# EAGLE library part EPF10K250-P599 (library altera)
EPF10K250 FLEX 10K family
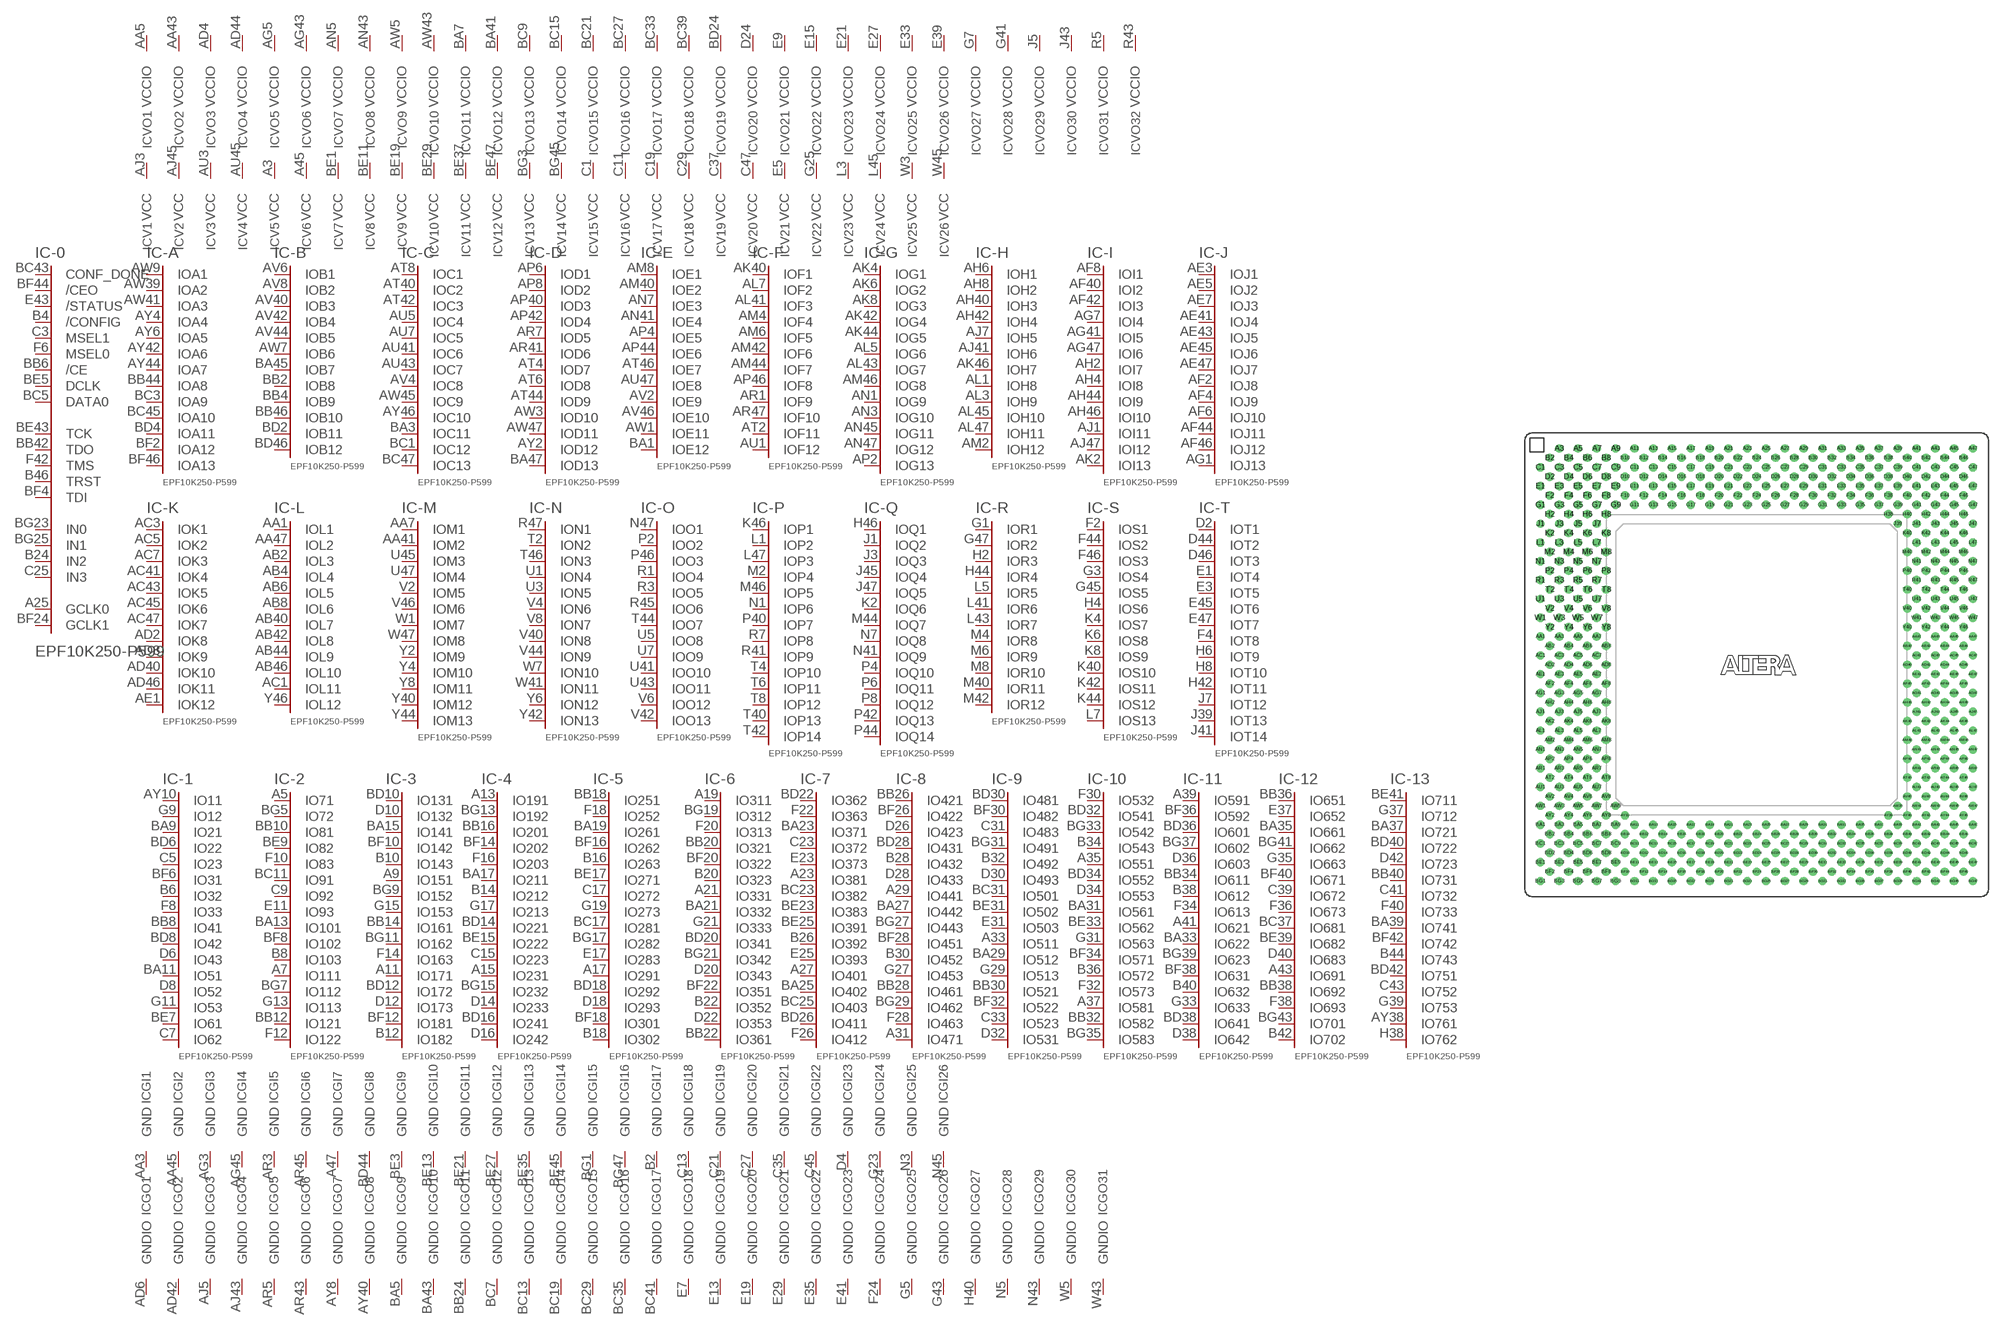
[diagram p31: symbol with the pads of PGA599; footprint PGA599]

Designator prefix IC; gates -0=K250_C -A=A13-250 -B=B12-250 -C=C13-250 -D=D13-250 -E=E12-250 -F=F12-250 -G=G13-250 -H=H12-250 -I=I13-250 -J=J13-250 -K=K12-250 -L=L12-250 -M=M13-250 -N=N13-250 -O=O13-250 -Q=Q14-250 -S=S13-250 -T=T14-250 -1=62-250 -2=122-250 -3=182-250 -4=242-250 -5=302-250 -6=361-250 -7=412-250 -8=471-250 -9=531-250 -10=583-250 -11=642-250 -12=702-250 -13=762-250 -P=P14-250 -R=R12-250 GI1=GNDINT GI2=GNDINT GI3=GNDINT GI4=GNDINT GI5=GNDINT GI6=GNDINT GI7=GNDINT GI8=GNDINT GI9=GNDINT GI10=GNDINT GI11=GNDINT GI12=GNDINT GI13=GNDINT GI14=GNDINT GI15=GNDINT GI16=GNDINT GI17=GNDINT GI18=GNDINT GI19=GNDINT GI20=GNDINT GI21=GNDINT GI22=GNDINT GI23=GNDINT GI24=GNDINT GI25=GNDINT GI26=GNDINT GO1=GNDIO GO2=GNDIO GO3=GNDIO GO4=GNDIO GO5=GNDIO GO6=GNDIO GO7=GNDIO GO8=GNDIO GO9=GNDIO GO10=GNDIO GO11=GNDIO GO12=GNDIO GO13=GNDIO GO14=GNDIO GO15=GNDIO GO16=GNDIO GO17=GNDIO GO18=GNDIO GO19=GNDIO GO20=GNDIO GO21=GNDIO GO22=GNDIO GO23=GNDIO GO24=GNDIO GO25=GNDIO GO26=GNDIO GO27=GNDIO GO28=GNDIO GO29=GNDIO GO30=GNDIO GO31=GNDIO V1=VCCINT V2=VCCINT V3=VCCINT V4=VCCINT V5=VCCINT V6=VCCINT V7=VCCINT V8=VCCINT V9=VCCINT V10=VCCINT V11=VCCINT V12=VCCINT V13=VCCINT V14=VCCINT V15=VCCINT V16=VCCINT V17=VCCINT V18=VCCINT V19=VCCINT V20=VCCINT V21=VCCINT V22=VCCINT V23=VCCINT V24=VCCINT V25=VCCINT V26=VCCINT VO1=VCCIO VO2=VCCIO VO3=VCCIO VO4=VCCIO VO5=VCCIO VO6=VCCIO VO7=VCCIO VO8=VCCIO VO9=VCCIO VO10=VCCIO VO11=VCCIO VO12=VCCIO VO13=VCCIO VO14=VCCIO VO15=VCCIO VO16=VCCIO VO17=VCCIO VO18=VCCIO VO19=VCCIO VO20=VCCIO VO21=VCCIO VO22=VCCIO VO23=VCCIO VO24=VCCIO VO25=VCCIO VO26=VCCIO VO27=VCCIO VO28=VCCIO VO29=VCCIO VO30=VCCIO VO31=VCCIO VO32=VCCIO

## EPF10K250-P599 (OC_FARNELL: unknown; OC_NEWARK: unknown)  [PGA599]
A3  V5:VCC  pwr
A5  -2:IO71
A7  -2:IO111
A9  -3:IO151
A11  -3:IO171
A13  -4:IO191
A15  -4:IO231
A17  -5:IO291
A19  -6:IO311
A21  -6:IO331
A23  -7:IO381
A25  -0:GCLK0  in
A27  -7:IO401
A29  -8:IO441
A31  -8:IO471
A33  -9:IO511
A35  -10:IO551
A37  -10:IO581
A39  -11:IO591
A41  -11:IO621
A43  -12:IO691
A45  V6:VCC  pwr
A47  GI7:GND  pwr
AA1  -L:IOL1
AA3  GI1:GND  pwr
AA5  VO1:VCCIO  pwr
AA7  -M:IOM1
AA41  -M:IOM2
AA43  VO2:VCCIO  pwr
AA45  GI2:GND  pwr
AA47  -L:IOL2
AB2  -L:IOL3
AB4  -L:IOL4
AB6  -L:IOL5
AB8  -L:IOL6
AB40  -L:IOL7
AB42  -L:IOL8
AB44  -L:IOL9
AB46  -L:IOL10
AC1  -L:IOL11
AC3  -K:IOK1
AC5  -K:IOK2
AC7  -K:IOK3
AC41  -K:IOK4
AC43  -K:IOK5
AC45  -K:IOK6
AC47  -K:IOK7
AD2  -K:IOK8
AD4  VO3:VCCIO  pwr
AD6  GO1:GNDIO  pwr
AD8  -K:IOK9
AD40  -K:IOK10
AD42  GO2:GNDIO  pwr
AD44  VO4:VCCIO  pwr
AD46  -K:IOK11
AE1  -K:IOK12
AE3  -J:IOJ1
AE5  -J:IOJ2
AE7  -J:IOJ3
AE41  -J:IOJ4
AE43  -J:IOJ5
AE45  -J:IOJ6
AE47  -J:IOJ7
AF2  -J:IOJ8
AF4  -J:IOJ9
AF6  -J:IOJ10
AF8  -I:IOI1
AF40  -I:IOI2
AF42  -I:IOI3
AF44  -J:IOJ11
AF46  -J:IOJ12
AG1  -J:IOJ13
AG3  GI3:GND  pwr
AG5  VO5:VCCIO  pwr
AG7  -I:IOI4
AG41  -I:IOI5
AG43  VO6:VCCIO  pwr
AG45  GI4:GND  pwr
AG47  -I:IOI6
AH2  -I:IOI7
AH4  -I:IOI8
AH6  -H:IOH1
AH8  -H:IOH2
AH40  -H:IOH3
AH42  -H:IOH4
AH44  -I:IOI9
AH46  -I:IOI10
AJ1  -I:IOI11
AJ3  V1:VCC  pwr
AJ5  GO3:GNDIO  pwr
AJ7  -H:IOH5
AJ41  -H:IOH6
AJ43  GO4:GNDIO  pwr
AJ45  V2:VCC  pwr
AJ47  -I:IOI12
AK2  -I:IOI13
AK4  -G:IOG1
AK6  -G:IOG2
AK8  -G:IOG3
AK40  -F:IOF1
AK42  -G:IOG4
AK44  -G:IOG5
AK46  -H:IOH7
AL1  -H:IOH8
AL3  -H:IOH9
AL5  -G:IOG6
AL7  -F:IOF2
AL41  -F:IOF3
AL43  -G:IOG7
AL45  -H:IOH10
AL47  -H:IOH11
AM2  -H:IOH12
AM4  -F:IOF4
AM6  -F:IOF5
AM8  -E:IOE1
AM40  -E:IOE2
AM42  -F:IOF6
AM44  -F:IOF7
AM46  -G:IOG8
AN1  -G:IOG9
AN3  -G:IOG10
AN5  VO7:VCCIO  pwr
AN7  -E:IOE3
AN41  -E:IOE4
AN43  VO8:VCCIO  pwr
AN45  -G:IOG11
AN47  -G:IOG12
AP2  -G:IOG13
AP4  -E:IOE5
AP6  -D:IOD1
AP8  -D:IOD2
AP40  -D:IOD3
AP42  -D:IOD4
AP44  -E:IOE6
AP46  -F:IOF8
AR1  -F:IOF9
AR3  GI5:GND  pwr
AR5  GO5:GNDIO  pwr
AR7  -D:IOD5
AR41  -D:IOD6
AR43  GO6:GNDIO  pwr
AR45  GI6:GND  pwr
AR47  -F:IOF10
AT2  -F:IOF11
AT4  -D:IOD7
AT6  -D:IOD8
AT8  -C:IOC1
AT40  -C:IOC2
AT42  -C:IOC3
AT44  -D:IOD9
AT46  -E:IOE7
AU1  -F:IOF12
AU3  V3:VCC  pwr
AU5  -C:IOC4
AU7  -C:IOC5
AU41  -C:IOC6
AU43  -C:IOC7
AU45  V4:VCC  pwr
AU47  -E:IOE8
AV2  -E:IOE9
AV4  -C:IOC8
AV6  -B:IOB1
AV8  -B:IOB2
AV40  -B:IOB3
AV42  -B:IOB4
AV44  -B:IOB5
AV46  -E:IOE10
AW1  -E:IOE11
AW3  -D:IOD10
AW5  VO9:VCCIO  pwr
AW7  -B:IOB6
AW9  -A:IOA1
AW39  -A:IOA2
AW41  -A:IOA3
AW43  VO10:VCCIO  pwr
AW45  -C:IOC9
AW47  -D:IOD11
AY2  -D:IOD12
AY4  -A:IOA4
AY6  -A:IOA5
AY8  GO7:GNDIO  pwr
AY10  -1:IO11
AY38  -13:IO761
AY40  GO8:GNDIO  pwr
AY42  -A:IOA6
AY44  -A:IOA7
AY46  -C:IOC10
B2  GI17:GND  pwr
B4  -0:/CONFIG  in
B6  -1:IO32
B8  -2:IO103
B10  -3:IO143
B12  -3:IO182
B14  -4:IO212
B16  -5:IO263
B18  -5:IO302
B20  -6:IO323
B22  -6:IO352
B24  -0:IN2  in
B26  -7:IO392
B28  -8:IO432
B30  -8:IO452
B32  -9:IO492
B34  -10:IO543
B36  -10:IO572
B38  -11:IO612
B40  -11:IO632
B42  -12:IO702
B44  -13:IO743
B46  -0:TRST
BA1  -E:IOE12
BA3  -C:IOC11
BA5  GO9:GNDIO  pwr
BA7  VO11:VCCIO  pwr
BA9  -1:IO21
BA11  -1:IO51
BA13  -2:IO101
BA15  -3:IO141
BA17  -4:IO211
BA19  -5:IO261
BA21  -6:IO332
BA23  -7:IO371
BA25  -7:IO402
BA27  -8:IO442
BA29  -9:IO512
BA31  -10:IO561
BA33  -11:IO622
BA35  -12:IO661
BA37  -13:IO721
BA39  -13:IO741
BA41  VO12:VCCIO  pwr
BA43  GO10:GNDIO  pwr
BA45  -B:IOB7
BA47  -D:IOD13
BB2  -B:IOB8
BB4  -B:IOB9
BB6  -0:/CE  in
BB8  -1:IO41
BB10  -2:IO81
BB12  -2:IO121
BB14  -3:IO161
BB16  -4:IO201
BB18  -5:IO251
BB20  -6:IO321
BB22  -6:IO361
BB24  GO11:GNDIO  pwr
BB26  -8:IO421
BB28  -8:IO461
BB30  -9:IO521
BB32  -10:IO582
BB34  -11:IO611
BB36  -12:IO651
BB38  -12:IO692
BB40  -13:IO731
BB42  -0:TDO
BB44  -A:IOA8
BB46  -B:IOB10
BC1  -C:IOC12
BC3  -A:IOA9
BC5  -0:DATA0  in
BC7  GO12:GNDIO  pwr
BC9  VO13:VCCIO  pwr
BC11  -2:IO91
BC13  GO13:GNDIO  pwr
BC15  VO14:VCCIO  pwr
BC17  -5:IO281
BC19  GO14:GNDIO  pwr
BC21  VO15:VCCIO  pwr
BC23  -7:IO382
BC25  -7:IO403
BC27  VO16:VCCIO  pwr
BC29  GO15:GNDIO  pwr
BC31  -9:IO501
BC33  VO17:VCCIO  pwr
BC35  GO16:GNDIO  pwr
BC37  -12:IO681
BC39  VO18:VCCIO  pwr
BC41  GO17:GNDIO  pwr
BC43  -0:CONF_DONE  in
BC45  -A:IOA10
BC47  -C:IOC13
BD2  -B:IOB11
BD4  -A:IOA11
BD6  -1:IO22
BD8  -1:IO42
BD10  -3:IO131
BD12  -3:IO172
BD14  -4:IO221
BD16  -4:IO241
BD18  -5:IO292
BD20  -6:IO341
BD22  -7:IO362
BD24  VO19:VCCIO  pwr
BD26  -7:IO411
BD28  -8:IO431
BD30  -9:IO481
BD32  -10:IO541
BD34  -10:IO552
BD36  -11:IO601
BD38  -11:IO641
BD40  -13:IO722
BD42  -13:IO751
BD44  GI8:GND  pwr
BD46  -B:IOB12
BE1  V7:VCC  pwr
BE3  GI9:GND  pwr
BE5  -0:DCLK  in
BE7  -1:IO61
BE9  -2:IO82
BE11  V8:VCC  pwr
BE13  GI10:GND  pwr
BE15  -4:IO222
BE17  -5:IO271
BE19  V9:VCC  pwr
BE21  GI11:GND  pwr
BE23  -7:IO383
BE25  -7:IO391
BE27  GI12:GND  pwr
BE29  V10:VCC  pwr
BE31  -9:IO502
BE33  -10:IO562
BE35  GI13:GND  pwr
BE37  V11:VCC  pwr
BE39  -12:IO682
BE41  -13:IO711
BE43  -0:TCK
BE45  GI14:GND  pwr
BE47  V12:VCC  pwr
BF2  -A:IOA12
BF4  -0:TDI
BF6  -1:IO31
BF8  -2:IO102
BF10  -3:IO142
BF12  -3:IO181
BF14  -4:IO202
BF16  -5:IO262
BF18  -5:IO301
BF20  -6:IO322
BF22  -6:IO351
BF24  -0:GCLK1  in
BF26  -8:IO422
BF28  -8:IO451
BF30  -9:IO482
BF32  -9:IO522
BF34  -10:IO571
BF36  -11:IO592
BF38  -11:IO631
BF40  -12:IO671
BF42  -13:IO742
BF44  -0:/CEO  in
BF46  -A:IOA13
BG1  GI15:GND  pwr
BG3  V13:VCC  pwr
BG5  -2:IO72
BG7  -2:IO112
BG9  -3:IO152
BG11  -3:IO162
BG13  -4:IO192
BG15  -4:IO232
BG17  -5:IO282
BG19  -6:IO312
BG21  -6:IO342
BG23  -0:IN0  in
BG25  -0:IN1  in
BG27  -8:IO443
BG29  -8:IO462
BG31  -9:IO491
BG33  -10:IO542
BG35  -10:IO583
BG37  -11:IO602
BG39  -11:IO623
BG41  -12:IO662
BG43  -12:IO701
BG45  V14:VCC  pwr
BG47  GI16:GND  pwr
C1  V15:VCC  pwr
C3  -0:MSEL1  in
C5  -1:IO23
C7  -1:IO62
C9  -2:IO92
C11  V16:VCC  pwr
C13  GI18:GND  pwr
C15  -4:IO223
C17  -5:IO272
C19  V17:VCC  pwr
C21  GI19:GND  pwr
C23  -7:IO372
C25  -0:IN3  in
C27  GI20:GND  pwr
C29  V18:VCC  pwr
C31  -9:IO483
C33  -9:IO523
C35  GI21:GND  pwr
C37  V19:VCC  pwr
C39  -12:IO672
C41  -13:IO732
C43  -13:IO752
C45  GI22:GND  pwr
C47  V20:VCC  pwr
D2  -T:IOT1
D4  GI23:GND  pwr
D6  -1:IO43
D8  -1:IO52
D10  -3:IO132
D12  -3:IO173
D14  -4:IO233
D16  -4:IO242
D18  -5:IO293
D20  -6:IO343
D22  -6:IO353
D24  VO20:VCCIO  pwr
D26  -8:IO423
D28  -8:IO433
D30  -9:IO493
D32  -9:IO531
D34  -10:IO553
D36  -11:IO603
D38  -11:IO642
D40  -12:IO683
D42  -13:IO723
D44  -T:IOT2
D46  -T:IOT3
E1  -T:IOT4
E3  -T:IOT5
E5  V21:VCC  pwr
E7  GO18:GNDIO  pwr
E9  VO21:VCCIO  pwr
E11  -2:IO93
E13  GO19:GNDIO  pwr
E15  VO22:VCCIO  pwr
E17  -5:IO283
E19  GO20:GNDIO  pwr
E21  VO23:VCCIO  pwr
E23  -7:IO373
E25  -7:IO393
E27  VO24:VCCIO  pwr
E29  GO21:GNDIO  pwr
E31  -9:IO503
E33  VO25:VCCIO  pwr
E35  GO22:GNDIO  pwr
E37  -12:IO652
E39  VO26:VCCIO  pwr
E41  GO23:GNDIO  pwr
E43  -0:/STATUS  in
E45  -T:IOT6
E47  -T:IOT7
F2  -S:IOS1
F4  -T:IOT8
F6  -0:MSEL0  in
F8  -1:IO33
F10  -2:IO83
F12  -2:IO122
F14  -3:IO163
F16  -4:IO203
F18  -5:IO252
F20  -6:IO313
F22  -7:IO363
F24  GO24:GNDIO  pwr
F26  -7:IO412
F28  -8:IO463
F30  -10:IO532
F32  -10:IO573
F34  -11:IO613
F36  -12:IO673
F38  -12:IO693
F40  -13:IO733
F42  -0:TMS
F44  -S:IOS2
F46  -S:IOS3
G1  -R:IOR1
G3  -S:IOS4
G5  GO25:GNDIO  pwr
G7  VO27:VCCIO  pwr
G9  -1:IO12
G11  -1:IO53
G13  -2:IO113
G15  -3:IO153
G17  -4:IO213
G19  -5:IO273
G21  -6:IO333
G23  GI24:GND  pwr
G25  V22:VCC  pwr
G27  -8:IO453
G29  -9:IO513
G31  -10:IO563
G33  -11:IO633
G35  -12:IO663
G37  -13:IO712
G39  -13:IO753
G41  VO28:VCCIO  pwr
G43  GO26:GNDIO  pwr
G45  -S:IOS5
G47  -R:IOR2
H2  -R:IOR3
H4  -S:IOS6
H6  -T:IOT9
H8  -T:IOT10
H38  -13:IO762
H40  GO27:GNDIO  pwr
H42  -T:IOT11
H44  -R:IOR4
H46  -Q:IOQ1
J1  -Q:IOQ2
J3  -Q:IOQ3
J5  VO29:VCCIO  pwr
J7  -T:IOT12
J39  -T:IOT13
J41  -T:IOT14
J43  VO30:VCCIO  pwr
J45  -Q:IOQ4
J47  -Q:IOQ5
K2  -Q:IOQ6
K4  -S:IOS7
K6  -S:IOS8
K8  -S:IOS9
K40  -S:IOS10
K42  -S:IOS11
K44  -S:IOS12
K46  -P:IOP1
L1  -P:IOP2
L3  V23:VCC  pwr
L5  -R:IOR5
L7  -S:IOS13
L41  -R:IOR6
L43  -R:IOR7
L45  V24:VCC  pwr
L47  -P:IOP3
M2  -P:IOP4
M4  -R:IOR8
M6  -R:IOR9
M8  -R:IOR10
M40  -R:IOR11
M42  -R:IOR12
M44  -Q:IOQ7
M46  -P:IOP5
N1  -P:IOP6
N3  GI25:GND  pwr
N5  GO28:GNDIO  pwr
N7  -Q:IOQ8
N41  -Q:IOQ9
N43  GO29:GNDIO  pwr
N45  GI26:GND  pwr
N47  -O:IOO1
P2  -O:IOO2
P4  -Q:IOQ10
P6  -Q:IOQ11
P8  -Q:IOQ12
P40  -P:IOP7
P42  -Q:IOQ13
P44  -Q:IOQ14
P46  -O:IOO3
R1  -O:IOO4
R3  -O:IOO5
R5  VO31:VCCIO  pwr
R7  -P:IOP8
R41  -P:IOP9
R43  VO32:VCCIO  pwr
R45  -O:IOO6
R47  -N:ION1
T2  -N:ION2
T4  -P:IOP10
T6  -P:IOP11
T8  -P:IOP12
T40  -P:IOP13
T42  -P:IOP14
T44  -O:IOO7
T46  -N:ION3
U1  -N:ION4
U3  -N:ION5
U5  -O:IOO8
U7  -O:IOO9
U41  -O:IOO10
U43  -O:IOO11
U45  -M:IOM3
U47  -M:IOM4
V2  -M:IOM5
V4  -N:ION6
V6  -O:IOO12
V8  -N:ION7
V40  -N:ION8
V42  -O:IOO13
V44  -N:ION9
V46  -M:IOM6
W1  -M:IOM7
W3  V25:VCC  pwr
W5  GO30:GNDIO  pwr
W7  -N:ION10
W41  -N:ION11
W43  GO31:GNDIO  pwr
W45  V26:VCC  pwr
W47  -M:IOM8
Y2  -M:IOM9
Y4  -M:IOM10
Y6  -N:ION12
Y8  -M:IOM11
Y40  -M:IOM12
Y42  -N:ION13
Y44  -M:IOM13
Y46  -L:IOL12

## Footprint PGA599 (pad centres in mm)
Pin Grid Array
drill 0.61 pad 1.016: A3 -26.67,29.21; A5 -24.13,29.21; A7 -21.59,29.21; A9 -19.05,29.21; A11 -16.51,29.21; A13 -13.97,29.21; A15 -11.43,29.21; A17 -8.89,29.21; A19 -6.35,29.21; A21 -3.81,29.21; A23 -1.27,29.21; A25 1.27,29.21; A27 3.81,29.21; A29 6.35,29.21; A31 8.89,29.21; A33 11.43,29.21; A35 13.97,29.21; A37 16.51,29.21; A39 19.05,29.21; A41 21.59,29.21; A43 24.13,29.21; A45 26.67,29.21; A47 29.21,29.21; AA1 -29.21,3.81; AA3 -26.67,3.81; AA5 -24.13,3.81; AA7 -21.59,3.81; AA41 21.59,3.81; AA43 24.13,3.81; AA45 26.67,3.81; AA47 29.21,3.81; AB2 -27.94,2.54; AB4 -25.4,2.54; AB6 -22.86,2.54; AB8 -20.32,2.54; AB40 20.32,2.54; AB42 22.86,2.54; AB44 25.4,2.54; AB46 27.94,2.54; AC1 -29.21,1.27; AC3 -26.67,1.27; AC5 -24.13,1.27; AC7 -21.59,1.27; AC41 21.59,1.27; AC43 24.13,1.27; AC45 26.67,1.27; AC47 29.21,1.27; AD2 -27.94,0; AD4 -25.4,0; AD6 -22.86,0; AD8 -20.32,0; AD40 20.32,0; AD42 22.86,0; AD44 25.4,0; AD46 27.94,0; AE1 -29.21,-1.27; AE3 -26.67,-1.27; AE5 -24.13,-1.27; AE7 -21.59,-1.27; AE41 21.59,-1.27; AE43 24.13,-1.27; AE45 26.67,-1.27; AE47 29.21,-1.27; AF2 -27.94,-2.54; AF4 -25.4,-2.54; AF6 -22.86,-2.54; AF8 -20.32,-2.54; AF40 20.32,-2.54; AF42 22.86,-2.54; AF44 25.4,-2.54; AF46 27.94,-2.54; AG1 -29.21,-3.81; AG3 -26.67,-3.81; AG5 -24.13,-3.81; AG7 -21.59,-3.81; AG41 21.59,-3.81; AG43 24.13,-3.81; AG45 26.67,-3.81; AG47 29.21,-3.81; AH2 -27.94,-5.08; AH4 -25.4,-5.08; AH6 -22.86,-5.08; AH8 -20.32,-5.08; AH40 20.32,-5.08; AH42 22.86,-5.08; AH44 25.4,-5.08; AH46 27.94,-5.08; AJ1 -29.21,-6.35; AJ3 -26.67,-6.35; AJ5 -24.13,-6.35; AJ7 -21.59,-6.35; AJ41 21.59,-6.35; AJ43 24.13,-6.35; AJ45 26.67,-6.35; AJ47 29.21,-6.35; AK2 -27.94,-7.62; AK4 -25.4,-7.62; AK6 -22.86,-7.62; AK8 -20.32,-7.62; AK40 20.32,-7.62; AK42 22.86,-7.62; AK44 25.4,-7.62; AK46 27.94,-7.62; AL1 -29.21,-8.89; AL3 -26.67,-8.89; AL5 -24.13,-8.89; AL7 -21.59,-8.89; AL41 21.59,-8.89; AL43 24.13,-8.89; AL45 26.67,-8.89; AL47 29.21,-8.89; AM2 -27.94,-10.16; AM4 -25.4,-10.16; AM6 -22.86,-10.16; AM8 -20.32,-10.16; AM40 20.32,-10.16; AM42 22.86,-10.16; AM44 25.4,-10.16; AM46 27.94,-10.16; AN1 -29.21,-11.43; AN3 -26.67,-11.43; AN5 -24.13,-11.43; AN7 -21.59,-11.43; AN41 21.59,-11.43; AN43 24.13,-11.43; AN45 26.67,-11.43; AN47 29.21,-11.43; AP2 -27.94,-12.7; AP4 -25.4,-12.7; AP6 -22.86,-12.7; AP8 -20.32,-12.7; AP40 20.32,-12.7; AP42 22.86,-12.7; AP44 25.4,-12.7; AP46 27.94,-12.7; AR1 -29.21,-13.97; AR3 -26.67,-13.97; AR5 -24.13,-13.97; AR7 -21.59,-13.97; AR41 21.59,-13.97; AR43 24.13,-13.97; AR45 26.67,-13.97; AR47 29.21,-13.97; AT2 -27.94,-15.24; AT4 -25.4,-15.24; AT6 -22.86,-15.24; AT8 -20.32,-15.24; AT40 20.32,-15.24; AT42 22.86,-15.24; AT44 25.4,-15.24; AT46 27.94,-15.24; AU1 -29.21,-16.51; AU3 -26.67,-16.51; AU5 -24.13,-16.51; AU7 -21.59,-16.51; AU41 21.59,-16.51; AU43 24.13,-16.51; AU45 26.67,-16.51; AU47 29.21,-16.51; AV2 -27.94,-17.78; AV4 -25.4,-17.78; AV6 -22.86,-17.78; AV8 -20.32,-17.78; AV40 20.32,-17.78; AV42 22.86,-17.78; AV44 25.4,-17.78; AV46 27.94,-17.78; AW1 -29.21,-19.05; AW3 -26.67,-19.05; AW5 -24.13,-19.05; AW7 -21.59,-19.05; AW9 -19.05,-19.05; AW39 19.05,-19.05; AW41 21.59,-19.05; AW43 24.13,-19.05; AW45 26.67,-19.05; AW47 29.21,-19.05; AY2 -27.94,-20.32; AY4 -25.4,-20.32; AY6 -22.86,-20.32; AY8 -20.32,-20.32; AY10 -17.78,-20.32; AY38 17.78,-20.32; AY40 20.32,-20.32; AY42 22.86,-20.32; AY44 25.4,-20.32; AY46 27.94,-20.32; B2 -27.94,27.94; B4 -25.4,27.94; B6 -22.86,27.94; B8 -20.32,27.94; B10 -17.78,27.94; B12 -15.24,27.94; B14 -12.7,27.94; B16 -10.16,27.94; B18 -7.62,27.94; B20 -5.08,27.94; B22 -2.54,27.94; B24 0,27.94; B26 2.54,27.94; B28 5.08,27.94; B30 7.62,27.94; B32 10.16,27.94; B34 12.7,27.94; B36 15.24,27.94; B38 17.78,27.94; B40 20.32,27.94; B42 22.86,27.94; B44 25.4,27.94; B46 27.94,27.94; BA1 -29.21,-21.59; BA3 -26.67,-21.59; BA5 -24.13,-21.59; BA7 -21.59,-21.59; BA9 -19.05,-21.59; BA11 -16.51,-21.59; BA13 -13.97,-21.59; BA15 -11.43,-21.59; BA17 -8.89,-21.59; BA19 -6.35,-21.59; BA21 -3.81,-21.59; BA23 -1.27,-21.59; BA25 1.27,-21.59; BA27 3.81,-21.59; BA29 6.35,-21.59; BA31 8.89,-21.59; BA33 11.43,-21.59; BA35 13.97,-21.59; BA37 16.51,-21.59; BA39 19.05,-21.59; BA41 21.59,-21.59; BA43 24.13,-21.59; BA45 26.67,-21.59; BA47 29.21,-21.59; BB2 -27.94,-22.86; BB4 -25.4,-22.86; BB6 -22.86,-22.86; BB8 -20.32,-22.86; BB10 -17.78,-22.86; BB12 -15.24,-22.86; BB14 -12.7,-22.86; BB16 -10.16,-22.86; BB18 -7.62,-22.86; BB20 -5.08,-22.86; BB22 -2.54,-22.86; BB24 0,-22.86; BB26 2.54,-22.86; BB28 5.08,-22.86; BB30 7.62,-22.86; BB32 10.16,-22.86; BB34 12.7,-22.86; BB36 15.24,-22.86; BB38 17.78,-22.86; BB40 20.32,-22.86; BB42 22.86,-22.86; BB44 25.4,-22.86; BB46 27.94,-22.86; BC1 -29.21,-24.13; BC3 -26.67,-24.13; BC5 -24.13,-24.13; BC7 -21.59,-24.13; BC9 -19.05,-24.13; BC11 -16.51,-24.13; BC13 -13.97,-24.13; BC15 -11.43,-24.13; BC17 -8.89,-24.13; BC19 -6.35,-24.13; BC21 -3.81,-24.13; BC23 -1.27,-24.13; BC25 1.27,-24.13; BC27 3.81,-24.13; BC29 6.35,-24.13; BC31 8.89,-24.13; BC33 11.43,-24.13; BC35 13.97,-24.13; BC37 16.51,-24.13; BC39 19.05,-24.13; BC41 21.59,-24.13; BC43 24.13,-24.13; BC45 26.67,-24.13; BC47 29.21,-24.13; BD2 -27.94,-25.4; BD4 -25.4,-25.4; BD6 -22.86,-25.4; BD8 -20.32,-25.4; BD10 -17.78,-25.4; BD12 -15.24,-25.4; BD14 -12.7,-25.4; BD16 -10.16,-25.4; BD18 -7.62,-25.4; BD20 -5.08,-25.4; BD22 -2.54,-25.4; BD24 0,-25.4; BD26 2.54,-25.4; BD28 5.08,-25.4; BD30 7.62,-25.4; BD32 10.16,-25.4; BD34 12.7,-25.4; BD36 15.24,-25.4; BD38 17.78,-25.4; BD40 20.32,-25.4; BD42 22.86,-25.4; BD44 25.4,-25.4; BD46 27.94,-25.4; BE1 -29.21,-26.67; BE3 -26.67,-26.67; BE5 -24.13,-26.67; BE7 -21.59,-26.67; BE9 -19.05,-26.67; BE11 -16.51,-26.67; BE13 -13.97,-26.67; BE15 -11.43,-26.67; BE17 -8.89,-26.67; BE19 -6.35,-26.67; BE21 -3.81,-26.67; BE23 -1.27,-26.67; BE25 1.27,-26.67; BE27 3.81,-26.67; BE29 6.35,-26.67; BE31 8.89,-26.67; BE33 11.43,-26.67; BE35 13.97,-26.67; BE37 16.51,-26.67; BE39 19.05,-26.67; BE41 21.59,-26.67; BE43 24.13,-26.67; BE45 26.67,-26.67; BE47 29.21,-26.67; BF2 -27.94,-27.94; BF4 -25.4,-27.94; BF6 -22.86,-27.94; BF8 -20.32,-27.94; BF10 -17.78,-27.94; BF12 -15.24,-27.94; BF14 -12.7,-27.94; BF16 -10.16,-27.94; BF18 -7.62,-27.94; BF20 -5.08,-27.94; BF22 -2.54,-27.94; BF24 0,-27.94; BF26 2.54,-27.94; BF28 5.08,-27.94; BF30 7.62,-27.94; BF32 10.16,-27.94; BF34 12.7,-27.94; BF36 15.24,-27.94; BF38 17.78,-27.94; BF40 20.32,-27.94; BF42 22.86,-27.94; BF44 25.4,-27.94; BF46 27.94,-27.94; BG1 -29.21,-29.21; BG3 -26.67,-29.21; BG5 -24.13,-29.21; BG7 -21.59,-29.21; BG9 -19.05,-29.21; BG11 -16.51,-29.21; BG13 -13.97,-29.21; BG15 -11.43,-29.21; BG17 -8.89,-29.21; BG19 -6.35,-29.21; BG21 -3.81,-29.21; BG23 -1.27,-29.21; BG25 1.27,-29.21; BG27 3.81,-29.21; BG29 6.35,-29.21; BG31 8.89,-29.21; BG33 11.43,-29.21; BG35 13.97,-29.21; BG37 16.51,-29.21; BG39 19.05,-29.21; BG41 21.59,-29.21; BG43 24.13,-29.21; BG45 26.67,-29.21; BG47 29.21,-29.21; C1 -29.21,26.67; C3 -26.67,26.67; C5 -24.13,26.67; C7 -21.59,26.67; C9 -19.05,26.67; C11 -16.51,26.67; C13 -13.97,26.67; C15 -11.43,26.67; C17 -8.89,26.67; C19 -6.35,26.67; C21 -3.81,26.67; C23 -1.27,26.67; C25 1.27,26.67; C27 3.81,26.67; C29 6.35,26.67; C31 8.89,26.67; C33 11.43,26.67; C35 13.97,26.67; C37 16.51,26.67; C39 19.05,26.67; C41 21.59,26.67; C43 24.13,26.67; C45 26.67,26.67; C47 29.21,26.67; D2 -27.94,25.4; D4 -25.4,25.4; D6 -22.86,25.4; D8 -20.32,25.4; D10 -17.78,25.4; D12 -15.24,25.4; D14 -12.7,25.4; D16 -10.16,25.4; D18 -7.62,25.4; D20 -5.08,25.4; D22 -2.54,25.4; D24 0,25.4; D26 2.54,25.4; D28 5.08,25.4; D30 7.62,25.4; D32 10.16,25.4; D34 12.7,25.4; D36 15.24,25.4; D38 17.78,25.4; D40 20.32,25.4; D42 22.86,25.4; D44 25.4,25.4; D46 27.94,25.4; E1 -29.21,24.13; E3 -26.67,24.13; E5 -24.13,24.13; E7 -21.59,24.13; E9 -19.05,24.13; E11 -16.51,24.13; E13 -13.97,24.13; E15 -11.43,24.13; E17 -8.89,24.13; E19 -6.35,24.13; E21 -3.81,24.13; E23 -1.27,24.13; E25 1.27,24.13; E27 3.81,24.13; E29 6.35,24.13; E31 8.89,24.13; E33 11.43,24.13; E35 13.97,24.13; E37 16.51,24.13; E39 19.05,24.13; E41 21.59,24.13; E43 24.13,24.13; E45 26.67,24.13; E47 29.21,24.13; F2 -27.94,22.86; F4 -25.4,22.86; F6 -22.86,22.86; F8 -20.32,22.86; F10 -17.78,22.86; F12 -15.24,22.86; F14 -12.7,22.86; F16 -10.16,22.86; F18 -7.62,22.86; F20 -5.08,22.86; F22 -2.54,22.86; F24 0,22.86; F26 2.54,22.86; F28 5.08,22.86; F30 7.62,22.86; F32 10.16,22.86; F34 12.7,22.86; F36 15.24,22.86; F38 17.78,22.86; F40 20.32,22.86; F42 22.86,22.86; F44 25.4,22.86; F46 27.94,22.86; G1 -29.21,21.59; G3 -26.67,21.59; G5 -24.13,21.59; G7 -21.59,21.59; G9 -19.05,21.59; G11 -16.51,21.59; G13 -13.97,21.59; G15 -11.43,21.59; G17 -8.89,21.59; G19 -6.35,21.59; G21 -3.81,21.59; G23 -1.27,21.59; G25 1.27,21.59; G27 3.81,21.59; G29 6.35,21.59; G31 8.89,21.59; G33 11.43,21.59; G35 13.97,21.59; G37 16.51,21.59; G39 19.05,21.59; G41 21.59,21.59; G43 24.13,21.59; G45 26.67,21.59; G47 29.21,21.59; H2 -27.94,20.32; H4 -25.4,20.32; H6 -22.86,20.32; H8 -20.32,20.32; H38 17.78,20.32; H40 20.32,20.32; H42 22.86,20.32; H44 25.4,20.32; H46 27.94,20.32; J1 -29.21,19.05; J3 -26.67,19.05; J5 -24.13,19.05; J7 -21.59,19.05; J39 19.05,19.05; J41 21.59,19.05; J43 24.13,19.05; J45 26.67,19.05; J47 29.21,19.05; K2 -27.94,17.78; K4 -25.4,17.78; K6 -22.86,17.78; K8 -20.32,17.78; K40 20.32,17.78; K42 22.86,17.78; K44 25.4,17.78; K46 27.94,17.78; L1 -29.21,16.51; L3 -26.67,16.51; L5 -24.13,16.51; L7 -21.59,16.51; L41 21.59,16.51; L43 24.13,16.51; L45 26.67,16.51; L47 29.21,16.51; M2 -27.94,15.24; M4 -25.4,15.24; M6 -22.86,15.24; M8 -20.32,15.24; M40 20.32,15.24; M42 22.86,15.24; M44 25.4,15.24; M46 27.94,15.24; N1 -29.21,13.97; N3 -26.67,13.97; N5 -24.13,13.97; N7 -21.59,13.97; N41 21.59,13.97; N43 24.13,13.97; N45 26.67,13.97; N47 29.21,13.97; P2 -27.94,12.7; P4 -25.4,12.7; P6 -22.86,12.7; P8 -20.32,12.7; P40 20.32,12.7; P42 22.86,12.7; P44 25.4,12.7; P46 27.94,12.7; R1 -29.21,11.43; R3 -26.67,11.43; R5 -24.13,11.43; R7 -21.59,11.43; R41 21.59,11.43; R43 24.13,11.43; R45 26.67,11.43; R47 29.21,11.43; T2 -27.94,10.16; T4 -25.4,10.16; T6 -22.86,10.16; T8 -20.32,10.16; T40 20.32,10.16; T42 22.86,10.16; T44 25.4,10.16; T46 27.94,10.16; U1 -29.21,8.89; U3 -26.67,8.89; U5 -24.13,8.89; U7 -21.59,8.89; U41 21.59,8.89; U43 24.13,8.89; U45 26.67,8.89; U47 29.21,8.89; V2 -27.94,7.62; V4 -25.4,7.62; V6 -22.86,7.62; V8 -20.32,7.62; V40 20.32,7.62; V42 22.86,7.62; V44 25.4,7.62; V46 27.94,7.62; W1 -29.21,6.35; W3 -26.67,6.35; W5 -24.13,6.35; W7 -21.59,6.35; W41 21.59,6.35; W43 24.13,6.35; W45 26.67,6.35; W47 29.21,6.35; Y2 -27.94,5.08; Y4 -25.4,5.08; Y6 -22.86,5.08; Y8 -20.32,5.08; Y40 20.32,5.08; Y42 22.86,5.08; Y44 25.4,5.08; Y46 27.94,5.08